# Altium footprint library CH0805LG.PcbLib: 1 footprints
Each footprint in its own frame and in the unit in brackets; x right, y up, seen from the top. Pads: shape width x height; smd on the part's side, far side on the other; paste and mask are expansions set on the pad; w line width, h text height; cw(c..) or ccw(c..) is an arc to the next point about the centre after c.
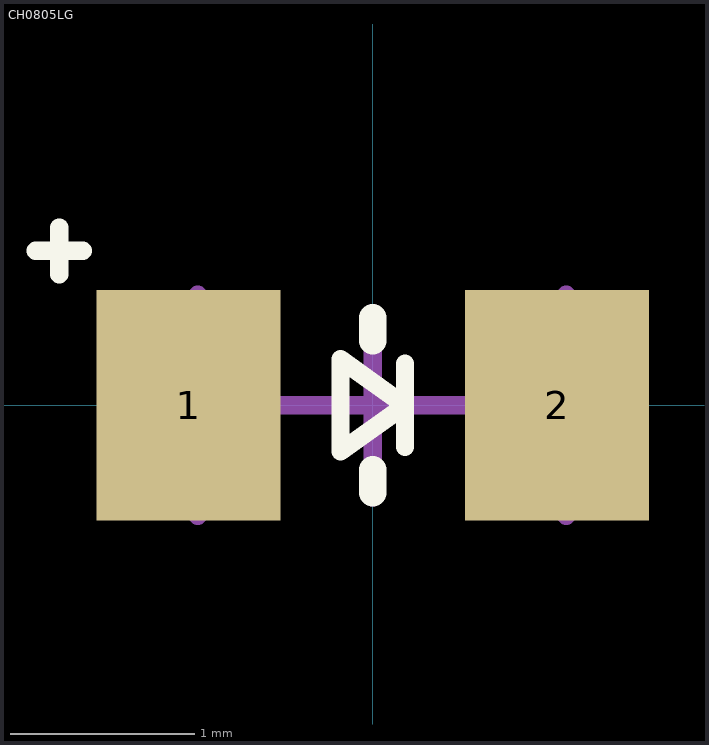
[diagram p0: the footprint, top view; thin cyan lines are the x and y axes]

## CH0805LG [mm]
pads (2):
  rect 1x1.25 smd: 1(-1,0) 2(1,0)
Top Overlay:
  lines w0.1: -1.829,0.838 -1.575,0.838 ; -1.702,0.711 -1.702,0.965 ; 0.175,-0.225 0.175,0 ; 0.175,0.225 0.175,0 ; 0.175,0 -0.175,0.25 -0.175,0 -0.175,-0.25 0.175,0
  lines w0.15: 0,-0.475 0,-0.35 ; 0,0.35 0,0.475
Mechanical 1:
  lines w0.1: -0.949,-0.6 -0.949,0.6 ; 1.05,-0.6 1.05,0.6
Mechanical 15:
  lines w0.1: -0.5,0 0.5,0 ; 0,-0.5 0,0.5
3D body "LED-0805H1.1.x_t": height 1.1, standoff 0, extent -1.099,-0.675 1.001,0.675